# Altium footprint library PcbLib2.PcbLib: 3 footprints
Each footprint in its own frame and in the unit in brackets; x right, y up, seen from the top. Pads: shape width x height; smd on the part's side, far side on the other; paste and mask are expansions set on the pad; w line width, h text height; cw(c..) or ccw(c..) is an arc to the next point about the centre after c.
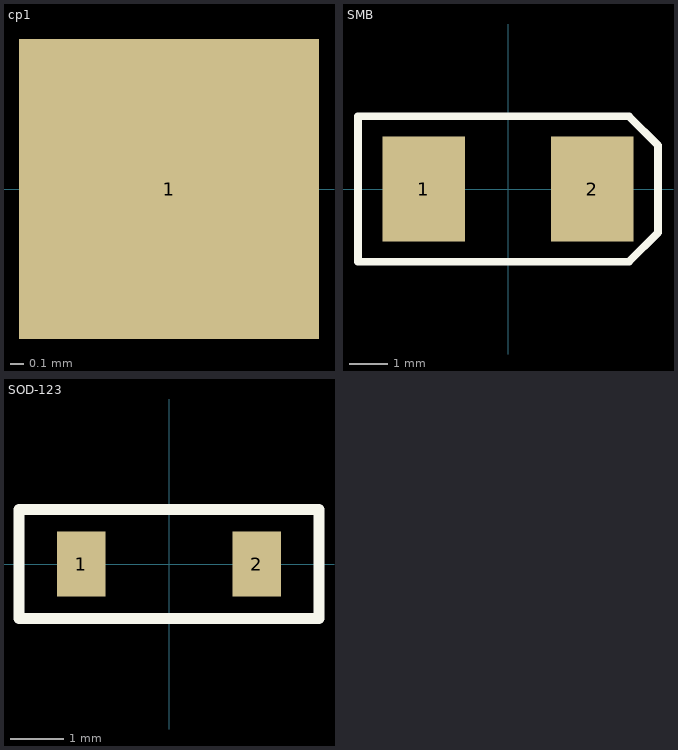
[diagram p0: the footprints below, top view; thin cyan lines are the x and y axes]

## cp1 [mm]
pads (1):
  rect 2.2x2.2 smd: 1(-6.3,0)

## SMB [mm]
pads (2):
  rect 2.159x2.743 smd: 1(-2.21,0) 2(2.21,0)
Top Overlay:
  lines w0.2: -3.937,-1.905 -3.937,-1.011 -3.937,1.905 3.175,1.905 3.937,1.143 3.937,-1.143 3.175,-1.905 -3.937,-1.905

## SOD-123 [mm]
pads (2):
  rect 0.91x1.22 smd: 1(-1.635,0) 2(1.635,0)
Top Overlay:
  lines w0.2: -2.794,-1.016 2.794,-1.016 2.794,1.016 -2.794,1.016 -2.794,-1.016